# Altium footprint library RESRR6700W750L9150T2000H2000.PcbLib: 1 footprints
Each footprint in its own frame and in the unit in brackets; x right, y up, seen from the top. Pads: shape width x height; smd on the part's side, far side on the other; paste and mask are expansions set on the pad; w line width, h text height; cw(c..) or ccw(c..) is an arc to the next point about the centre after c.
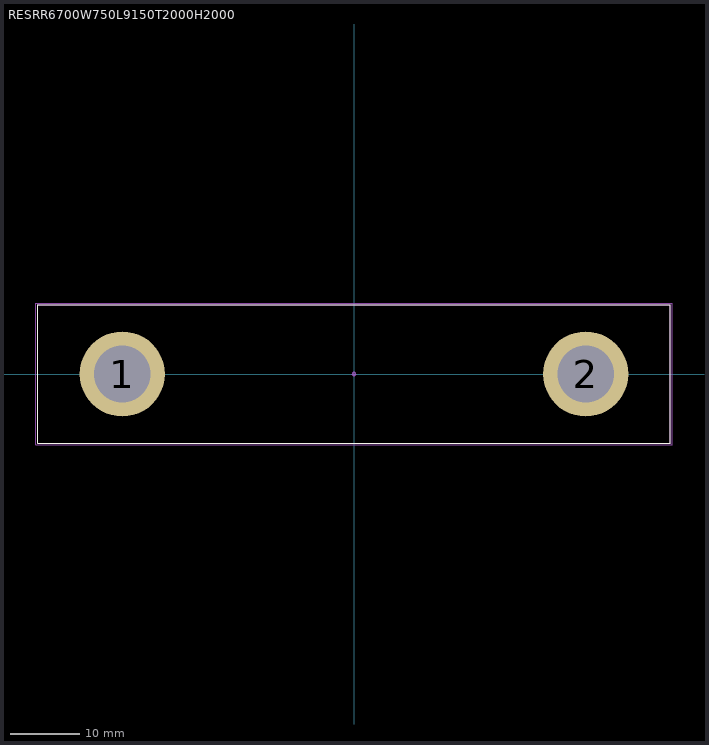
[diagram p0: the footprint, top view; thin cyan lines are the x and y axes]

## RESRR6700W750L9150T2000H2000 [mm] "Resistor, Radial (Molded); 67.00 mm pitch X 7.50 mm W X 91.50 mm L X 20.00 mm T X 20.00 mm H body"
height 20
pads (2):
  round 12.3 hole 8.2 paste-12.3: 1(-33.5,0) 2(33.5,0)
Top Overlay:
  lines w0.12: -45.75,-10 -45.75,10 45.75,10 45.75,-10 -45.75,-10
Mechanical 3:
  lines w0.12: -45.75,-10 -45.75,10 45.75,10 45.75,-10 -45.75,-10
Mechanical 5:
  circle w0.025: c-33.5,0 r4
  circle w0.025: c33.5,0 r4
  lines w0.025: -45.75,-10 -45.75,10 45.75,10 45.75,-10 -45.75,-10
Mechanical 7:
  circle w0.05: c0,0 r0.25
  lines w0.05: -0.35,0 0.35,0 ; 0,-0.35 0,0.35 ; -46,-10.25 46,-10.25 46,10.25 -46,10.25 -46,-10.25
Mechanical 9:
  text ".Designator" at -45.75,-10 h10
3D body: height 0.25, standoff 0, extent 0,0 0.254,0.254
3D body "RESRR6700W750L9150T2000H2000.STEP": height 20, standoff -2, extent -45.759,-9.993 45.741,10.007